# EAGLE library part TPS54383 (library texas)
3-A DUAL NON-SYNCHRONOUS CONVERTER WITH INTEGRATED HIGH-SIDE MOSFET
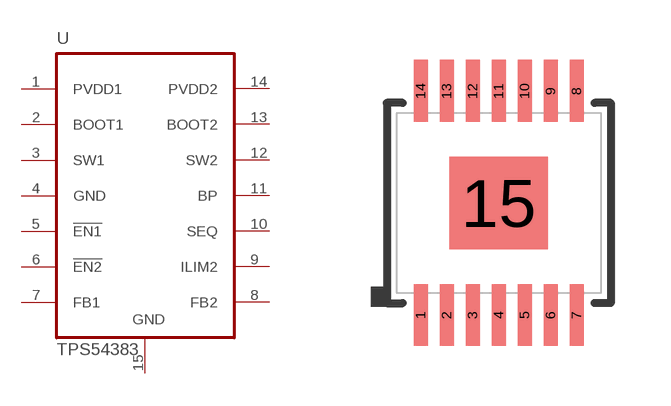
[diagram p74: symbol with the pads of HTSSOP14-PWP; footprint HTSSOP14-PWP]

Designator prefix U

## TPS54383  [HTSSOP14-PWP]
1  PVDD1  in
2  BOOT1  in
3  SW1  out
4  GND
5  !EN1!  in
6  !EN2!  in
7  FB1  in
8  FB2  in
9  ILIM2  in
10  SEQ  pas
11  BP
12  SW2  out
13  BOOT2  in
14  PVDD2  in
15  GND

## Footprint HTSSOP14-PWP (pad centres in mm)
HTSSOP14 PowerPAD (R-PDSO-G14) pitch 0.635 mm, body 4.5 mm x 5.1 mm
smd 0.35 x 1.55: 1 -1.95,-2.8; 2 -1.3,-2.8; 3 -0.65,-2.8; 4 0,-2.8; 5 0.65,-2.8; 6 1.3,-2.8; 7 1.95,-2.8; 8 1.95,2.8; 9 1.3,2.8; 10 0.65,2.8; 11 0,2.8; 12 -0.65,2.8; 13 -1.3,2.8; 14 -1.95,2.8
smd 2.46 x 2.3: 15 0,0